# Altium schematic symbol library MOV_0.Schlib: 1 symbol
Pins are listed as number, name and electrical type; pins without a type are passive.

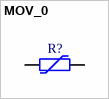
[diagram p0: symbol MOV_0]

## MOV_0
designator R?  (value not drawn)
pins: 1, 2